# EAGLE library part LM74610QDGKRQ1 (library LM74610QDGKRQ1)
Zero Iq Reverse Polarity Protection Smart Diode Controller Source: Datasheet <http://www.ti.com/lit/gpn/lm74610-q1>
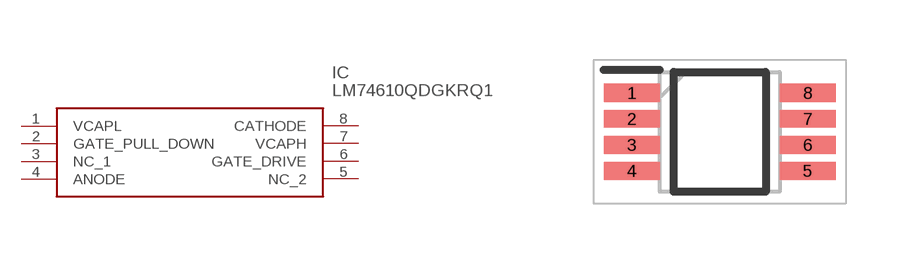
[diagram p0: symbol with the pads of SOP65P490X110-8N; footprint SOP65P490X110-8N]

Designator prefix IC

## LM74610QDGKRQ1 (Description: Zero Iq Reverse Polarity Protection Smart Diode Controller; Height: 1.1mm; Manufacturer_Name: Texas Instruments; Manufacturer_Part_Number: LM74610QDGKRQ1; Mouser_Part_Number: 595-LM74610QDGKRQ1; Mouser_Price-Stock: https://www.mouser.co.uk/ProductDetail/Texas-Instruments/LM74610QDGKRQ1?qs=3jdCaFhktOQTVpuuubgDqg%3D%3D)  [SOP65P490X110-8N]
1  VCAPL
2  GATE_PULL_DOWN
3  NC_1
4  ANODE
5  NC_2
6  GATE_DRIVE
7  VCAPH
8  CATHODE

## Footprint SOP65P490X110-8N (pad centres in mm)
DGK (S-PDSO-G8)
smd 1.4 x 0.45: 1 -2.2,0.975; 2 -2.2,0.325; 3 -2.2,-0.325; 4 -2.2,-0.975; 5 2.2,-0.975; 6 2.2,-0.325; 7 2.2,0.325; 8 2.2,0.975